# EAGLE library part 1X8 (library aaaacustom)
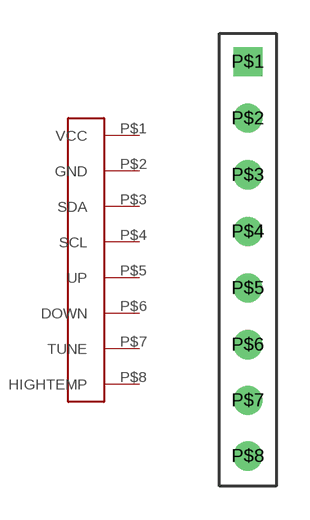
[diagram p5: symbol with the pads of 1X8; footprint 1X8]

Designator prefix -

## 1X8  [1X8]
P$1  VCC
P$2  GND
P$3  SDA
P$4  SCL
P$5  UP
P$6  DOWN
P$7  TUNE
P$8  HIGHTEMP

## Footprint 1X8 (pad centres in mm)
drill 0.8 square: P$1 0,0
drill 0.8: P$2 0,-2.54; P$3 0,-5.08; P$4 0,-7.62; P$5 0,-10.16; P$6 0,-12.7; P$7 0,-15.2; P$8 0,-17.7